# Altium integrated library LSM303AGRTR.IntLib: 1 symbol
Pins are listed as number, name and electrical type; pins without a type are passive.

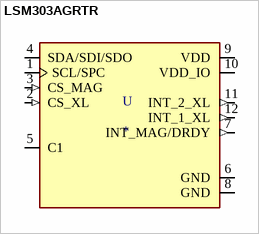
[diagram p0: symbol LSM303AGRTR]

## LSM303AGRTR
designator U
Accelerometer, Magnetometer, Temperature, 6 Axis Sensor IÂ²C, SPI Output; MP: LSM303AGRTR; MF: STMicroelectronics; SnapEDA_Link: https://www.snapeda.com/parts/LSM303AGRTR/STMicroelectronics/view-part/491952/?ref=snap; Digi-Key_Purchase_URL: https://www.digikey.sg/product-detail/en/stmicroelectronics/LSM303AGRTR/497-16527-1-ND/6006105?utm_source=snapeda&utm_medium=aggregator&utm_campaign=symbol; Value: *; Package: LGA-12 STMicroelectronics; Digi-Key_Part_Number: 497-16527-1-ND
footprint LGA12R50P_200X200X100
pins: 1 SCL/SPC (io), 2 CS_XL (in), 3 CS_MAG (in), 4 SDA/SDI/SDO (io), 5 C1, 6 GND (power), 7 INT_MAG/DRDY (out), 8 GND (power), 9 VDD (power), 10 VDD_IO (power), 11 INT_2_XL (out), 12 INT_1_XL (out)